# EAGLE library part 09565527613 (library D-Sub Connectors)
CONN DSUB HD RCPT 78POS R/A SLDR Manufacturer's datasheet <https://b2b.harting.com/files/download/PRD/PDF_TS/0956552X613_100510350DRW001D.pdf>
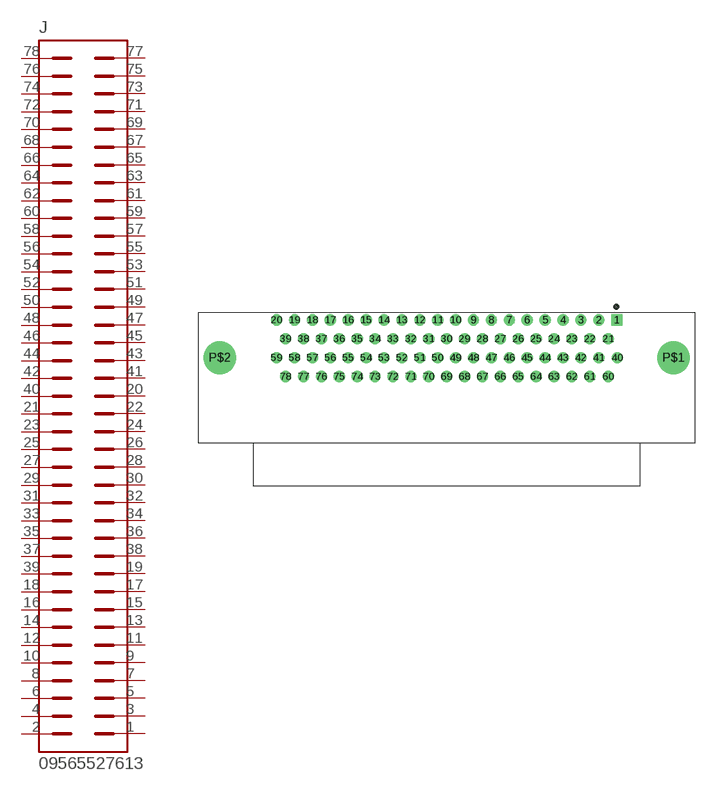
[diagram p9: symbol with the pads of 9565527613; footprint 9565527613]

Designator prefix J

## 09565527613 (CREATED_BY: PCBLayout.com; DIGIKEY_PART_NO: 1195-2346-ND; MANUFACTURER: HARTING; MPN: 09565527613)  [9565527613]
1  78  pas
2  77  pas
3  76  pas
4  75  pas
5  74  pas
6  73  pas
7  72  pas
8  71  pas
9  70  pas
10  69  pas
11  68  pas
12  67  pas
13  66  pas
14  65  pas
15  64  pas
16  63  pas
17  62  pas
18  61  pas
19  60  pas
20  40  pas
21  41  pas
22  42  pas
23  43  pas
24  44  pas
25  45  pas
26  46  pas
27  47  pas
28  48  pas
29  49  pas
30  50  pas
31  51  pas
32  52  pas
33  53  pas
34  54  pas
35  55  pas
36  56  pas
37  57  pas
38  58  pas
39  59  pas
40  39  pas
41  38  pas
42  37  pas
43  36  pas
44  35  pas
45  34  pas
46  33  pas
47  32  pas
48  31  pas
49  30  pas
50  29  pas
51  28  pas
52  27  pas
53  26  pas
54  25  pas
55  24  pas
56  23  pas
57  22  pas
58  21  pas
59  20  pas
60  19  pas
61  18  pas
62  17  pas
63  16  pas
64  15  pas
65  14  pas
66  13  pas
67  12  pas
68  11  pas
69  10  pas
70  9  pas
71  8  pas
72  7  pas
73  6  pas
74  5  pas
75  4  pas
76  3  pas
77  2  pas
78  1  pas

## Footprint 9565527613 (pad centres in mm)
drill 1 square: 1 22.9,5.08
drill 1: 2 20.49,5.08; 3 18.08,5.08; 4 15.67,5.08; 5 13.26,5.08; 6 10.85,5.08; 7 8.44,5.08; 8 6.03,5.08; 9 3.62,5.08; 10 1.21,5.08; 11 -1.21,5.08; 12 -3.62,5.08; 13 -6.03,5.08; 14 -8.44,5.08; 15 -10.85,5.08; 16 -13.26,5.08; 17 -15.67,5.08; 18 -18.08,5.08; 19 -20.49,5.08; 20 -22.9,5.08; 21 21.78,2.54; 22 19.28,2.54; 23 16.87,2.54; 24 14.46,2.54; 25 12.05,2.54; 26 9.64,2.54; 27 7.23,2.54; 28 4.82,2.54; 29 2.41,2.54; 30 0,2.54; 31 -2.41,2.54; 32 -4.82,2.54; 33 -7.23,2.54; 34 -9.64,2.54; 35 -12.05,2.54; 36 -14.46,2.54; 37 -16.87,2.54; 38 -19.28,2.54; 39 -21.69,2.54; 40 22.99,0; 41 20.49,0; 42 18.08,0; 43 15.67,0; 44 13.26,0; 45 10.85,0; 46 8.44,0; 47 6.03,0; 48 3.62,0; 49 1.21,0; 50 -1.2,0; 51 -3.61,0; 52 -6.02,0; 53 -8.43,0; 54 -10.84,0; 55 -13.25,0; 56 -15.66,0; 57 -18.07,0; 58 -20.48,0; 59 -22.9,0; 60 21.78,-2.54; 61 19.28,-2.54; 62 16.87,-2.54; 63 14.46,-2.54; 64 12.05,-2.54; 65 9.64,-2.54; 66 7.23,-2.54; 67 4.82,-2.54; 68 2.41,-2.54; 69 0,-2.54; 70 -2.41,-2.54; 71 -4.82,-2.54; 72 -7.23,-2.54; 73 -9.64,-2.54; 74 -12.05,-2.54; 75 -14.46,-2.54; 76 -16.87,-2.54; 77 -19.28,-2.54; 78 -21.69,-2.54
drill 3.4: P$1 30.56,0; P$2 -30.56,0